# Altium schematic symbol library Schlib1.SchLib: 7 symbols
Pins are listed as number, name and electrical type; pins without a type are passive.

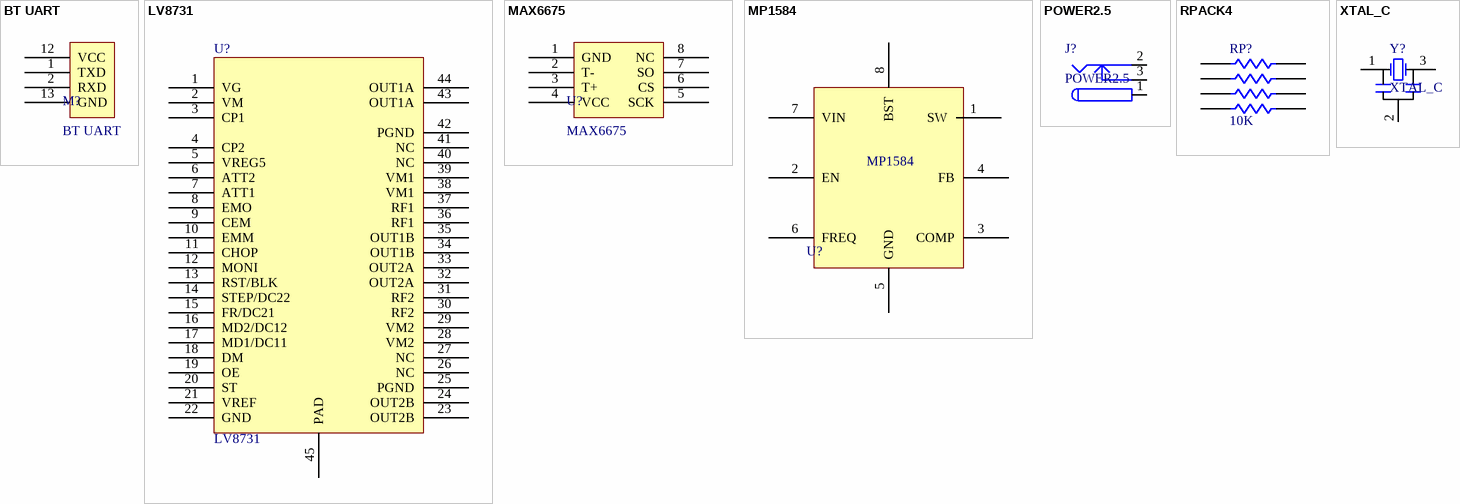
[diagram p0: symbols BT UART to XTAL_C]

## BT UART
designator M?
pins: 1 TXD, 2 RXD, 12 VCC (power), 13 GND

## LV8731
designator U?
footprint SSOP44K (SOP, 44-Leads, Body 15.0x5.6mm (max), Pitch 0.65mm, IPC Low Density)
pins: 1 VG, 2 VM, 3 CP1, 4 CP2, 5 VREG5, 6 ATT2, 7 ATT1, 8 EMO, 9 CEM, 10 EMM, 11 CHOP, 12 MONI, 13 RST/BLK, 14 STEP/DC22, 15 FR/DC21, 16 MD2/DC12, 17 MD1/DC11, 18 DM, 19 OE, 20 ST, 21 VREF, 22 GND, 23 OUT2B, 24 OUT2B, 25 PGND, 26 NC, 27 NC, 28 VM2, 29 VM2, 30 RF2, 31 RF2, 32 OUT2A, 33 OUT2A, 34 OUT1B, 35 OUT1B, 36 RF1, 37 RF1, 38 VM1, 39 VM1, 40 NC, 41 NC, 42 PGND, 43 OUT1A, 44 OUT1A, 45 PAD

## MAX6675
designator U?
footprint SO8 (Small Outline; 8 Leads; Body Width 3.9 mm; Pitch 1.27 mm)
pins: 1 GND, 2 T-, 3 T+, 4 VCC, 5 SCK, 6 CS, 7 SO, 8 NC

## MP1584
designator U?  (value not drawn)
footprint MP1584 (SOIC, 8-Leads, Body 4.9x3.9mm (max), Pitch 1.27mm, IPC Medium Density)
pins: 1 SW, 2 EN, 3 COMP, 4 FB, 5 GND, 6 FREQ, 7 VIN, 8 BST

## POWER2.5
designator J?
footprint DC_POWER
pins: 1, 2, 3

## RPACK4
designator RP?, comment 10K
footprint RESLINE4
footprint RP4
footprint 0805-4
footprint R0603x4 (Chip Resistor Array, (0603x4); SM; 8 Leads; Body 3.40 x 1.80 mm (LxW max))
pins: 1, 2, 3, 4, 5, 6, 7, 8

## XTAL_C
designator Y?
Crystal Oscillator; Published: 8-Jun-2000; LatestRevisionDate: 17-Jul-2002; LatestRevisionNote: Re-released for DXP Platform.; PackageReference: R38; Publisher: Altium Limited
simulation model XTAL (Spice Subcircuit)
footprint Crystal_C (含电容晶振，村田 3.)
pins: 1 OSC1, 2 GND, 3 OSC2